# Altium schematic symbol library Schlib1.SchLib: 5 symbols
Pins are listed as number, name and electrical type; pins without a type are passive.

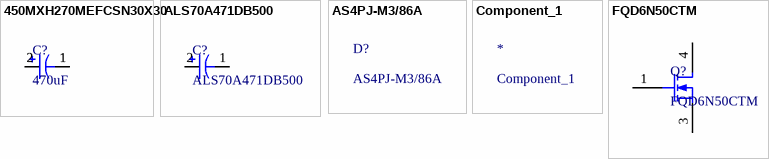
[diagram p0: symbols 450MXH270MEFCSN30X30 to FQD6N50CTM]

## 450MXH270MEFCSN30X30
designator C?, comment 470uF
footprint 450MXH270MEFCSN30X30
pins: 1 -, 1 -, 2 +, 2 +

## ALS70A471DB500
designator C?
Cap Aluminum Lytic 470uF 500V 20% (36 X 62mm) Screw Terminal 0.531 Ohm 3100mA 11000h 85C T/R; Manufacturer: KEMET; Manufacturer Part Number: ALS70A471DB500; RoHS: No; Category: Aluminum Electrolytic Capacitors; Stock 1: 23; Pricing 1: 1=12,69000, 10=12,06000, 50=10,15560, 100=9,52090, 500=8,44184, 1000=7,93406, 2500=7,77538, 5000=7,61670 (USD); ComponentLink1URL: https://api.kemet.com/component-edge/download/datasheet/ALS70A471DB500.pdf?src-supplier=Digi-Key; ComponentLink1Description: https://api.kemet.com/component-edge/download/datasheet/ALS70A471DB500.pdf?src-supplier=Digi-Key; Supplier 1: Digi-Key; Supplier Part Number 1: 399-14319-ND
footprint ALS70A471DB500 (DB_35x62mm)
footprint Model Name (Footprint not found)
pins: 1 -, 2 +

## AS4PJ-M3/86A
designator D?
DIODE, STANDARD, 4A, 600V, TO-277A; Manufacturer: Vishay Semiconductors; Forward Voltage: 1.1V; Average Rectified Current: 2.4A; Element Configuration: Common Anode; Reverse Recovery Time: 1.8us; Max Reverse Current: 350nA; Peak Non-Repetitive Surge Current: 100A; Diode Type: Avalanche; Supplier 1: Digi-Key; Manufacturer Part Number: AS4PJ-M3/86A; RoHS: Yes; Category: Rectifier Diodes; Stock 1: 1030; Pricing 1: 1=0,69000, 10=0,60700, 100=0,41400, 500=0,34592 (USD); Mount: Surface Mount; Number of Pins: 3; Contact Plating: Tin,Matte; Min Operating Temperature: -55°C; Max Operating Temperature: 175°C; Package Quantity: 1; Packaging: Tape and Reel; Forward Current: 4A; Max Repetitive Reverse Voltage (Vrrm): 600V; Max Surge Current: 100A; Max Forward Surge Current (Ifsm): 100A; Recovery Time: 1.8us; Max Reverse Voltage (DC): 600V; Reverse Voltage: 600V; Radiation Hardening: No; ComponentLink1URL: https://datasheet.ciiva.com/4452/as4pd-59738-4452339.pdf?src-supplier=Mouser; ComponentLink1Description: https://datasheet.ciiva.com/4452/as4pd-59738-4452339.pdf?src-supplier=Mouser; ComponentLink2URL: https://datasheet.ciiva.com/26295/as4pd-26295285.pdf?src-supplier=Element14; ComponentLink2Description: https://datasheet.ciiva.com/26295/as4pd-26295285.pdf?src-supplier=Element14; ComponentLink3URL: https://datasheet.ciiva.com/5779/as4pd-5779326.pdf?src-supplier=Farnell; ComponentLink3Description: https://datasheet.ciiva.com/5779/as4pd-5779326.pdf?src-supplier=Farnell; ComponentLink4URL: https://datasheet.ciiva.com/917/as4pd-917985.pdf?src-supplier=Digi-Key; ComponentLink4Description: https://datasheet.ciiva.com/917/as4pd-917985.pdf?src-supplier=Digi-Key; ComponentLink5URL: https://datasheet.ciiva.com/917/as4pd-917986.pdf?src-supplier=Digi-Key; ComponentLink5Description: https://datasheet.ciiva.com/917/as4pd-917986.pdf?src-supplier=Digi-Key; ComponentLink6URL: https://datasheet.ciiva.com/917/as4pd-917987.pdf?src-supplier=Digi-Key; ComponentLink6Description: https://datasheet.ciiva.com/917/as4pd-917987.pdf?src-supplier=Digi-Key; ComponentLink7URL: https://datasheet.ciiva.com/8287/as4pd-8287213.pdf?src-supplier=Avnet; ComponentLink7Description: https://datasheet.ciiva.com/8287/as4pd-8287213.pdf?src-supplier=Avnet; Supplier Part Number 1: AS4PJ-M3/86AGICT-ND

## Component_1
designator *

## FQD6N50CTM
designator Q?
Transistor, Mosfet, N-Channel, 500V V(Br)Dss, 4.5A I(D), To-252Aa; Manufacturer: ON Semiconductor / Fairchild; Rise Time: 35ns; Rds On Max: 1.2R; Input Capacitance: 700pF; Fall Time: 45ns; Power Dissipation: 2.5W; Turn-Off Delay Time: 55ns; Gate to Source Voltage (Vgs): 30V; Element Configuration: Single; Turn-On Delay Time: 10ns; Number of Elements: 1; Supplier 1: Digi-Key; Manufacturer Part Number: FQD6N50CTM; RoHS: Yes; Category: MOSFETs; Stock 1: 650; Pricing 1: 1=0,95000, 10=0,77600, 25=0,76200, 100=0,60380, 500=0,51176, 1000=0,41688 (USD); Mount: Surface Mount; Case/Package: DPAK; Number of Pins: 3; Weight: 0.26037g; Min Operating Temperature: -55°C; Max Operating Temperature: 150°C; Package Quantity: 1; Packaging: Tape and Reel; Continuous Drain Current (ID): 4.5A; Drain to Source Breakdown Voltage: 500V; Drain to Source Resistance: 1.2R; Drain to Source Voltage (Vdss): 500V; Max Power Dissipation: 2.5W; Voltage Rating (DC): 500V; Current Rating: 4.5A; Radiation Hardening: No; Lead Free: Lead Free; ComponentLink1URL: https://datasheet.ciiva.com/11175/fqd6n50c-11175856.pdf?src-supplier=Avnet; ComponentLink1Description: https://datasheet.ciiva.com/11175/fqd6n50c-11175856.pdf?src-supplier=Avnet; ComponentLink2URL: https://datasheet.ciiva.com/4445/fqd6n50c-110706-4445904.pdf?src-supplier=Mouser; ComponentLink2Description: https://datasheet.ciiva.com/4445/fqd6n50c-110706-4445904.pdf?src-supplier=Mouser; ComponentLink3URL: https://datasheet.ciiva.com/26791/fqd6n50ctm-26791044.pdf?src-supplier=IIIC; ComponentLink3Description: https://datasheet.ciiva.com/26791/fqd6n50ctm-26791044.pdf?src-supplier=IIIC; Supplier Part Number 1: FQD6N50CTMCT-ND
footprint DPAK3 (MOSFET)
pins: 1 G, 3 S, 4 D